# Altium footprint library 2318_Métronome_Electronique_Library.PcbLib: 22 footprints (part 2 of 2)
Each footprint in its own frame and in the unit in brackets; x right, y up, seen from the top. Pads: shape width x height; smd on the part's side, far side on the other; paste and mask are expansions set on the pad; w line width, h text height; cw(c..) or ccw(c..) is an arc to the next point about the centre after c.
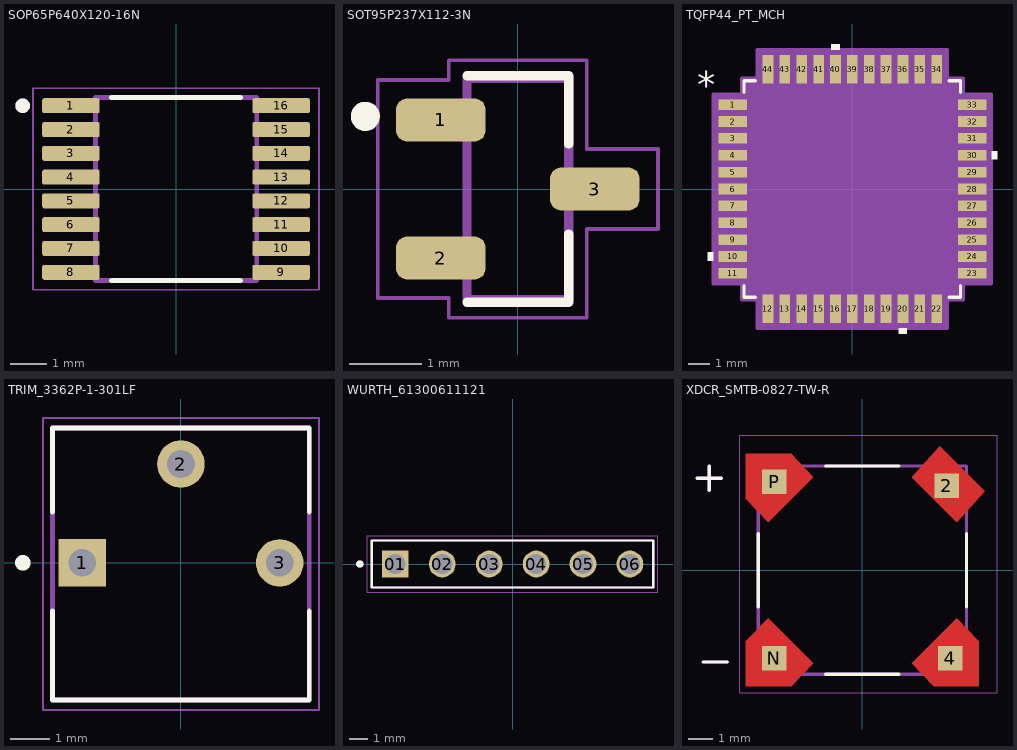
[diagram p1: the footprints below, top view; thin cyan lines are the x and y axes]

## SOP65P640X120-16N [mm] "TSC2007IPW, Touchscreen Controller"
pads (16):
  rrect25% 1.57x0.41 smd: 1(-2.87,2.275) 2(-2.87,1.625) 3(-2.87,0.975) 4(-2.87,0.325) 5(-2.87,-0.325) 6(-2.87,-0.975) 7(-2.87,-1.625) 8(-2.87,-2.275) 9(2.87,-2.275) 10(2.87,-1.625) 11(2.87,-0.975) 12(2.87,-0.325) 13(2.87,0.325) 14(2.87,0.975) 15(2.87,1.625) 16(2.87,2.275)
Top Overlay:
  circle w0.2: c-4.19,2.275 r0.1
  lines w0.127: -1.765,-2.5 1.765,-2.5 ; -1.765,2.5 1.765,2.5
Top 3D Body:
  circle w0.2: c-4.19,2.275 r0.1
  lines w0.127: -2.2,-2.5 2.2,-2.5 2.2,2.5 -2.2,2.5 -2.2,-2.5
Top Courtyard:
  lines w0.05: -3.905,-2.75 3.905,-2.75 3.905,2.75 -3.905,2.75 -3.905,-2.75
3D body "step_temp.STEP": height 1.2, standoff 0, extent -3.2,-2.5 3.2,2.5

## SOT95P237X112-3N [mm]
pads (3):
  rrect50% 1.23x0.59 smd: 1(-1.06,0.95) 2(-1.06,-0.95) 3(1.06,0)
Top Overlay:
  circle w0.2: c-2.1,1 r0.1
  lines w0.127: -0.7,-1.56 0.7,-1.56 0.7,-0.62 ; -0.7,1.56 0.7,1.56 0.7,0.62
Top 3D Body:
  circle w0.2: c-2.1,1 r0.1
  lines w0.127: -0.7,-1.52 0.7,-1.52 0.7,1.52 -0.7,1.52 -0.7,-1.52
Top Courtyard:
  lines w0.05: -1.93,-1.5 -0.95,-1.5 -0.95,-1.77 0.95,-1.77 0.95,-0.55 1.93,-0.55 1.93,0.55 0.95,0.55 0.95,1.77 -0.95,1.77 -0.95,1.5 -1.93,1.5 -1.93,-1.5
3D body "step_temp.STEP": height 1.12, standoff 0, extent -1.175,-1.46 1.175,1.46

## TQFP44_PT_MCH [mil]
pads (44):
  rect 53x20 smd paste+0 mask+0: 1(-223.5,157.48) 2(-223.5,125.98) 3(-223.5,94.49) 4(-223.5,62.99) 5(-223.5,31.5) 6(-223.5,0) 7(-223.5,-31.5) 8(-223.5,-62.99) 9(-223.5,-94.49) 10(-223.5,-125.98) 11(-223.5,-157.48) 23(223.5,-157.48) 24(223.5,-125.98) 25(223.5,-94.49) 26(223.5,-62.99) 27(223.5,-31.5) 28(223.5,0) 29(223.5,31.5) 30(223.5,62.99) 31(223.5,94.49) 32(223.5,125.98) 33(223.5,157.48)
  rect 20x53 smd paste+0 mask+0: 12(-157.48,-223.5) 13(-125.98,-223.5) 14(-94.49,-223.5) 15(-62.99,-223.5) 16(-31.5,-223.5) 17(0,-223.5) 18(31.5,-223.5) 19(62.99,-223.5) 20(94.49,-223.5) 21(125.98,-223.5) 22(157.48,-223.5) 34(157.48,223.5) 35(125.98,223.5) 36(94.49,223.5) 37(62.99,223.5) 38(31.5,223.5) 39(0,223.5) 40(-31.5,223.5) 41(-62.99,223.5) 42(-94.49,223.5) 43(-125.98,223.5) 44(-157.48,223.5)
Top Overlay:
  region: -24,260 -39,260 -39,270 -24,270
  region: 260,70.49 270,70.49 270,55.49 260,55.49
  region: 101.99,-260 86.99,-260 86.99,-270 101.99,-270
  region: -260,-118.48 -270,-118.48 -270,-133.48 -260,-133.48
  lines w6: -202,-180.58 -202,-202 -180.58,-202 ; -202,180.58 -202,202 -180.58,202 ; 180.58,-202 202,-202 202,-180.58 ; 180.58,202 202,202 202,180.58
  text "*" at -290,170 h50
Top 3D Body:
  drawing of 181 lines, arcs and shapes, not listed
  text "*" at -194.5,148.23 h50
Top Courtyard:
  region: -177.48,-207 -207,-207 -207,-177.48 -260,-177.48 -260,177.48 -207,177.48 -207,207 -177.48,207 -177.48,260 177.48,260 177.48,207 207,207 207,177.48 260,177.48 260,-177.48 207,-177.48 207,-207 177.48,-207 177.48,-260 -177.48,-260
  lines w6: -260,-177.48 -260,177.48 -207,177.48 -207,207 -177.48,207 -177.48,260 177.48,260 177.48,207 207,207 207,177.48 260,177.48 260,-177.48 207,-177.48 207,-207 177.48,-207 177.48,-260 -177.48,-260 -177.48,-207 -207,-207 -207,-177.48 -260,-177.48
3D body "TQFP44_PT_MCH.step": height 47.09, standoff 0, extent -235.98,-235.98 235.98,235.98

## TRIM_3362P-1-301LF [mm]
pads (3):
  rect 1.222x1.222 hole 0.714: 1(-2.54,0)
  round 1.222 hole 0.714: 2(0,2.54) 3(2.54,0)
Top Overlay:
  circle w0.2: c-4.064,0 r0.1
  lines w0.127: -3.3,-3.53 3.3,-3.53 ; -3.3,-3.52 -3.3,-1.235 ; -3.3,1.305 -3.3,3.47 3.3,3.47 3.3,1.305 ; 3.3,-3.52 3.3,-1.235
Top 3D Body:
  lines w0.127: -3.3,-3.53 -3.3,3.47 3.3,3.47 3.3,-3.53 -3.3,-3.53
Top Courtyard:
  lines w0.05: -3.55,-3.78 -3.55,3.72 3.55,3.72 3.55,-3.78 -3.55,-3.78
3D body "step_temp.STEP": height 4.88, standoff -5.84, extent -3.3,-3.495 3.3,3.495

## WURTH_61300611121 [mm]
pads (6):
  rect 1.45x1.45 / inner round 1.45 / far side rect 1.45x1.45 hole 1.1 mask+0.05: 01(-6.35,0)
  round 1.45 hole 1.1 mask+0.05: 02(-3.81,0) 03(-1.27,0) 04(1.27,0) 05(3.81,0) 06(6.35,0)
Top Overlay:
  circle w0.2: c-8.27,0 r0.1
  lines w0.127: -7.62,-1.27 7.62,-1.27 7.62,1.27 -7.62,1.27 -7.62,-1.27
Top 3D Body:
  circle w0.2: c-8.27,0 r0.1
  lines w0.127: -7.62,-1.27 7.62,-1.27 7.62,1.27 -7.62,1.27 -7.62,-1.27
Top Courtyard:
  lines w0.05: -7.87,-1.52 7.87,-1.52 7.87,1.52 -7.87,1.52 -7.87,-1.52

## XDCR_SMTB-0827-TW-R [mm]
height 3.3
pads (4):
  rect 1x1 smd paste-1 mask+0: 2(3.45,3.45) 4(3.6,-3.6) N(-3.6,-3.6) P(-3.6,3.6)
Top Layer:
  region: -2.009,3.798 -3.848,1.959 -4.75,2.912 -4.75,4.75 -2.912,4.75
  region: -2.009,-3.798 -2.912,-4.75 -4.75,-4.75 -4.75,-2.912 -3.848,-1.959
  region: 5,3.212 3.848,1.959 2.009,3.798 3.162,5.05
  region: 4.75,-2.912 4.75,-4.75 2.912,-4.75 2.009,-3.798 3.848,-1.959
Top Overlay:
  lines w0.127: -6.75,3.75 -5.75,3.75 ; -6.5,-3.75 -5.5,-3.75 ; -6.25,3.25 -6.25,4.25 ; -4.25,-1.5 -4.25,1.5 ; -1.5,-4.25 1.5,-4.25 ; -1.5,4.25 1.5,4.25 ; 4.25,-1.5 4.25,1.5
Top Paste:
  region: -2.009,-3.798 -2.912,-4.75 -4.75,-4.75 -4.75,-2.912 -3.848,-1.959
  region: 5,3.212 3.848,1.959 2.009,3.798 3.162,5.05
  region: 4.75,-2.912 4.75,-4.75 2.912,-4.75 2.009,-3.798 3.848,-1.959
  region: -2.009,3.798 -3.848,1.959 -4.75,2.912 -4.75,4.75 -2.912,4.75
Top Solder:
  region: -1.909,3.798 -3.848,1.859 -4.85,2.812 -4.85,4.85 -2.812,4.85
  region: -1.809,-3.848 -2.912,-4.85 -4.85,-4.85 -4.85,-2.912 -3.848,-1.809
  region: 5.2,3.212 3.798,1.759 1.759,3.798 3.162,5.25
  region: 4.85,-2.812 4.85,-4.85 2.812,-4.85 1.859,-3.748 3.798,-1.809
Top 3D Body:
  lines w0.127: -6.75,3.75 -5.75,3.75 ; -6.5,-3.75 -5.5,-3.75 ; -6.25,3.25 -6.25,4.25 ; -4.25,-4.25 4.25,-4.25 4.25,4.25 -4.25,4.25 -4.25,-4.25
Top Courtyard:
  lines w0.05: -5,-5 -5,5.5 5.5,5.5 5.5,-5 -5,-5
3D body "step_temp.STEP": height 2.99, standoff -0.01, extent -4.271,-4.204 4.243,4.31